# EAGLE library part UG2864 (library we-opto)
WiseChip UG-2864 OLED 128x64 with SSD1306 0.96" - UG-2864HSWEG01 or ER-OLED0.96-1W 1.30" - UG-2864KSWLG01 or ER-OLED013-1W
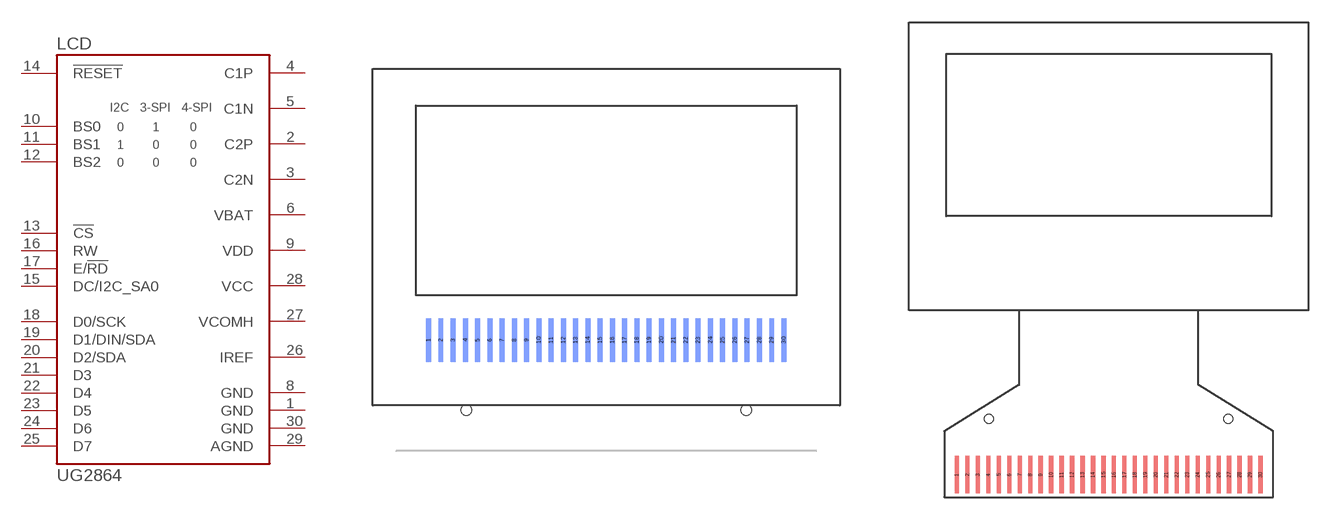
[diagram p2: symbol with the pads of UG2864HSWEG01_BOT; footprints UG2864HSWEG01_BOT, UG2864HSWEG01_TOP]

Designator prefix LCD

## UG2864HSWEG01-B  [UG2864HSWEG01_BOT]
1  GND  pwr
2  C2P  pas
3  C2N  pas
4  C1P  pas
5  C1N  pas
6  VBAT  pwr
8  GND  pwr
9  VDD  pwr
10  BS0  in
11  BS1  in
12  BS2  in
13  !CS  in
14  !RESET  in
15  DC/I2C_SA0  in
16  RW
17  E/!RD
18  D0/SCK
19  D1/DIN/SDA
20  D2/SDA
21  D3
22  D4
23  D5
24  D6
25  D7
26  IREF  pas
27  VCOMH  pwr
28  VCC  pwr
29  AGND  pwr
30  GND  pwr

## UG2864HSWEG01-T  [UG2864HSWEG01_TOP]
Pads as for UG2864HSWEG01_BOT

## UG2864KSWLG01-B  [UG2864KSWLG01_BOT]
Pads as for UG2864HSWEG01_BOT

## UG2864FFC  [FPC30]
Pads as for UG2864HSWEG01_BOT

## Footprint UG2864HSWEG01_BOT (pad centres in mm)
smd 0.35 x 2.5 bottom: 1 -10.15,3.75; 2 -9.45,3.75; 3 -8.75,3.75; 4 -8.05,3.75; 5 -7.35,3.75; 6 -6.65,3.75; 7 -5.95,3.75; 8 -5.25,3.75; 9 -4.55,3.75; 10 -3.85,3.75; 11 -3.15,3.75; 12 -2.45,3.75; 13 -1.75,3.75; 14 -1.05,3.75; 15 -0.35,3.75; 16 0.35,3.75; 17 1.05,3.75; 18 1.75,3.75; 19 2.45,3.75; 20 3.15,3.75; 21 3.85,3.75; 22 4.55,3.75; 23 5.25,3.75; 24 5.95,3.75; 25 6.65,3.75; 26 7.35,3.75; 27 8.05,3.75; 28 8.75,3.75; 29 9.45,3.75; 30 10.15,3.75
hole 0.6 at -8,-0.25
hole 0.6 at 8,-0.25

## Footprint UG2864HSWEG01_TOP (pad centres in mm)
smd 0.35 x 2.5: 1 -10.15,-11; 2 -9.45,-11; 3 -8.75,-11; 4 -8.05,-11; 5 -7.35,-11; 6 -6.65,-11; 7 -5.95,-11; 8 -5.25,-11; 9 -4.55,-11; 10 -3.85,-11; 11 -3.15,-11; 12 -2.45,-11; 13 -1.75,-11; 14 -1.05,-11; 15 -0.35,-11; 16 0.35,-11; 17 1.05,-11; 18 1.75,-11; 19 2.45,-11; 20 3.15,-11; 21 3.85,-11; 22 4.55,-11; 23 5.25,-11; 24 5.95,-11; 25 6.65,-11; 26 7.35,-11; 27 8.05,-11; 28 8.75,-11; 29 9.45,-11; 30 10.15,-11
hole 0.6 at -8,-7.25
hole 0.6 at 8,-7.25

## Footprint UG2864KSWLG01_BOT (pad centres in mm)
smd 0.35 x 2.5 bottom: 1 -10.15,3.75; 2 -9.45,3.75; 3 -8.75,3.75; 4 -8.05,3.75; 5 -7.35,3.75; 6 -6.65,3.75; 7 -5.95,3.75; 8 -5.25,3.75; 9 -4.55,3.75; 10 -3.85,3.75; 11 -3.15,3.75; 12 -2.45,3.75; 13 -1.75,3.75; 14 -1.05,3.75; 15 -0.35,3.75; 16 0.35,3.75; 17 1.05,3.75; 18 1.75,3.75; 19 2.45,3.75; 20 3.15,3.75; 21 3.85,3.75; 22 4.55,3.75; 23 5.25,3.75; 24 5.95,3.75; 25 6.65,3.75; 26 7.35,3.75; 27 8.05,3.75; 28 8.75,3.75; 29 9.45,3.75; 30 10.15,3.75
hole 0.6 at -8,-0.25
hole 0.6 at 8,-0.25

## Footprint FPC30 (pad centres in mm)
smd 1.27 x 0.279: 1 -2.54,7.25; 2 -2.54,6.75; 3 -2.54,6.25; 4 -2.54,5.75; 5 -2.54,5.25; 6 -2.54,4.75; 7 -2.54,4.25; 8 -2.54,3.75; 9 -2.54,3.25; 10 -2.54,2.75; 11 -2.54,2.25; 12 -2.54,1.75; 13 -2.54,1.25; 14 -2.54,0.75; 15 -2.54,0.25; 16 -2.54,-0.25; 17 -2.54,-0.75; 18 -2.54,-1.25; 19 -2.54,-1.75; 20 -2.54,-2.25; 21 -2.54,-2.75; 22 -2.54,-3.25; 23 -2.54,-3.75; 24 -2.54,-4.25; 25 -2.54,-4.75; 26 -2.54,-5.25; 27 -2.54,-5.75; 28 -2.54,-6.25; 29 -2.54,-6.75; 30 -2.54,-7.25